# Altium footprint library LPSON_CON.PcbLib: 86 footprints (part 6 of 6)
Each footprint in its own frame and in the unit in brackets; x right, y up, seen from the top. Pads: shape width x height; smd on the part's side, far side on the other; paste and mask are expansions set on the pad; w line width, h text height; cw(c..) or ccw(c..) is an arc to the next point about the centre after c.
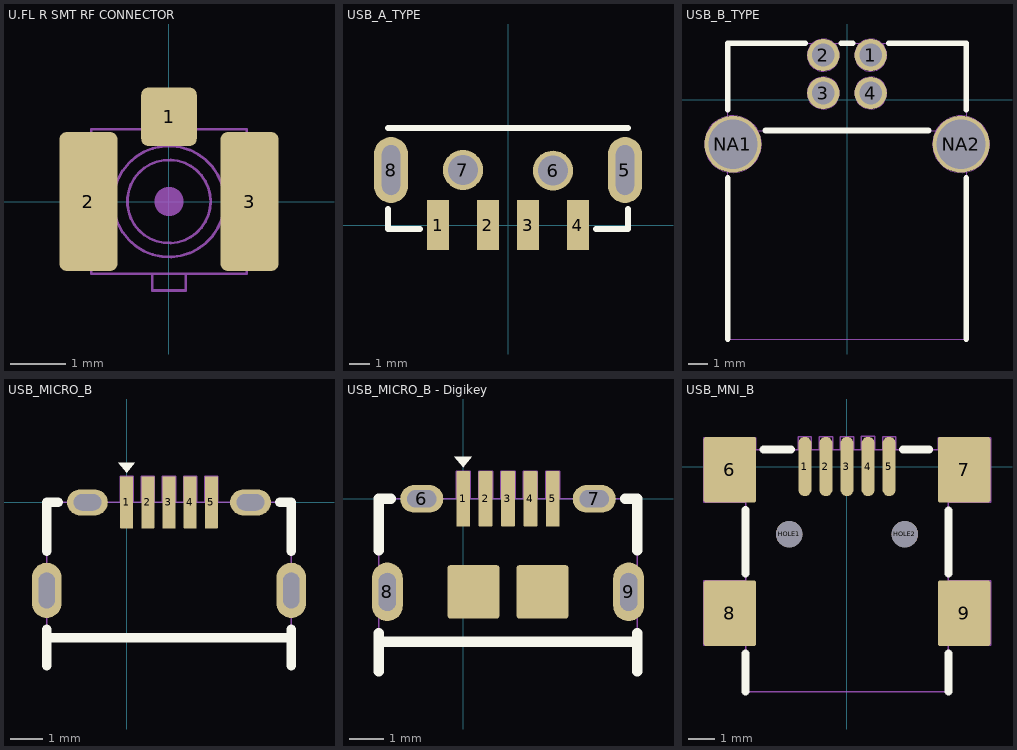
[diagram p5: the footprints below, top view; thin cyan lines are the x and y axes]

## U.FL R SMT RF CONNECTOR [mm]
pads (3):
  rrect25% 1x1.05 smd: 1(0,1.525)
  rrect25% 1.05x2.5 smd: 2(-1.45,0) 3(1.45,0)
Mechanical 2:
  circle w0.05: c0,0 r0.75
  circle w0.5: c0,0 r0.01
  circle w0.05: c0,0 r1
  lines w0.05: -1.4,-1 -1.7,-1 -1.7,1 -1.4,1 ; -0.4,1.3 -0.4,1.55 0.4,1.55 0.4,1.3 ; -0.3,-1.3 -0.3,-1.6 0.3,-1.6 0.3,-1.3 ; 1.4,-1 1.7,-1 1.7,1 1.4,1 ; -1.4,-1.3 -1.4,1.3 1.4,1.3 1.4,-1.3 -1.4,-1.3
  text "1" at -0.1,1.7 h0.5
  text "2" at -2.1,-0.25 h0.5
  text "3" at 1.8,-0.25 h0.5
3D body "SW3dPS-UFL-R-SMD.STEP": height 1.25, standoff 0, extent -1.7,-1.55 1.7,1.55

## USB_A_TYPE [mm] "USB A TYPE"
height 3
pads (8):
  rect 1.1x2.5 smd: 1(-3.5,0) 2(-1,0) 3(1,0) 4(3.5,0)
  oval 1.7x3.3 hole 0.9 slot 2.5 at 90 deg: 5(5.85,2.75) 8(-5.85,2.75)
  round 2 hole 1.5: 6(2.25,2.72) 7(-2.25,2.75)
Top Overlay:
  lines w0.3: -6,0.8 -6,0 -6,-0.2 -4.4,-0.2 ; -6,4.851 6,4.851 ; 4.4,-0.2 6,-0.2 6,0.8
3D body "629004113921.stp": height 2.25, standoff -2.25, extent -6,-0.218 6,19.582

## USB_B_TYPE [mm] "USB TYPE B 12.6x15.6x11.39"
height 11.39
pads (6):
  round 1.7 hole 1.2 mask+0.1: 1(1.25,2.35) 2(-1.25,2.35) 3(-1.25,0.35) 4(1.25,0.35)
  round 3 hole 2.6 mask+0.1: NA1(-6.02,-2.35) NA2(6.02,-2.35)
Top Overlay:
  lines w0.3: -6.3,-12.63 -6.3,-4.13 ; -6.3,-0.53 -6.3,2.97 -2.2,2.97 ; -4.3,-1.63 4.3,-1.63 ; -0.3,2.97 0.3,2.97 ; 2.2,2.97 6.3,2.97 6.3,-0.53 ; 6.3,-12.63 6.3,-4.13
Mechanical 1:
  circle w0.05: c1.25,2.35 r0.85
  circle w0.05: c-1.25,2.35 r0.85
  circle w0.05: c-1.25,0.35 r0.85
  circle w0.05: c1.25,0.35 r0.85
  circle w0.05: c-6.02,-2.35 r1.5
  circle w0.05: c6.02,-2.35 r1.5
  lines w0.05: -6.3,-1.63 6.3,-1.63 ; -6.3,-12.63 -6.3,2.97 6.3,2.97 6.3,-12.63 -6.3,-12.63

## USB_MICRO_B [mm] "USB_MICRO_B, banlinhkien"
height 3
pads (9):
  rrect10% 0.4x1.6 smd: 1(0,0) 2(0.65,0) 3(1.3,0) 4(1.95,0) 5(2.6,0)
  oval 0.9x1.7 hole 0.5 slot 1.1 at 90 deg: ""(-2.45,-2.7) ""(5.05,-2.7)
  oval 1.25x0.8 hole 0.85 slot 0.5 at 90 deg: ""(-1.2,0) ""(3.8,0)
Top Overlay:
  region: 0,0.914 -0.254,1.219 0.254,1.219
  lines w0.3: -2.45,-5 -2.45,-3.9 ; -2.45,-4.15 5.05,-4.15 ; -2.45,-1.5 -2.45,0 -2.1,0 ; 4.7,0 5.05,0 5.05,-1.5 ; 5.05,-5 5.05,-3.9
Mechanical 2:
  lines w0.05: -2.45,-5 -2.45,0 5.05,0 5.05,-5 ; -2.45,-4.15 5.05,-4.15 ; -0.2,0 -0.2,0.8 0.2,0.8 0.2,0 ; 0.45,0 0.45,0.8 0.85,0.8 0.85,0 ; 1.1,0 1.1,0.8 1.5,0.8 1.5,0 ; 1.75,0 1.75,0.8 2.15,0.8 2.15,0 ; 2.4,0 2.4,0.8 2.8,0.8 2.8,0
  text "1" at -0.1,-1 h0.8
  text "5" at 2.3,-1 h0.8
3D body "usb micro b.stp": height 2.61, standoff -0.8, extent -2.45,-5 5.05,0.295

## USB_MICRO_B - Digikey [mm] "USB_MICRO_B, 609-4618-1-ND"
height 3
pads (11):
  rrect10% 0.4x1.6 smd: 1(0,0) 2(0.65,0) 3(1.3,0) 4(1.95,0) 5(2.6,0)
  oval 1.25x0.8 hole 0.85 slot 0.5 at 90 deg: 6(-1.2,0) 7(3.8,0)
  oval 0.9x1.7 hole 0.5 slot 1.1 at 90 deg: 8(-2.2,-2.7) 9(4.8,-2.7)
  rrect10% 1.5x1.55 smd: ""(0.3,-2.7) ""(2.3,-2.7)
Top Overlay:
  region: 0,0.914 -0.254,1.219 0.254,1.219
  lines w0.3: -2.45,-5 -2.45,-3.9 ; -2.45,-4.15 5.05,-4.15 ; -2.45,-1.5 -2.45,0 -2.1,0 ; 4.7,0 5.05,0 5.05,-1.5 ; 5.05,-5 5.05,-3.9
Mechanical 2:
  lines w0.05: -2.45,-5 -2.45,0 5.05,0 5.05,-5 ; -2.45,-4.15 5.05,-4.15 ; -0.2,0 -0.2,0.8 0.2,0.8 0.2,0 ; 0.45,0 0.45,0.8 0.85,0.8 0.85,0 ; 1.1,0 1.1,0.8 1.5,0.8 1.5,0 ; 1.75,0 1.75,0.8 2.15,0.8 2.15,0 ; 2.4,0 2.4,0.8 2.8,0.8 2.8,0
  text "5" at 2.3,-1 h0.8
  text "1" at -0.1,-1 h0.8
3D body "usb micro b.stp": height 2.61, standoff -0.8, extent -2.45,-5 5.05,0.295

## USB_MNI_B [mm] "USB_MINI_B 9.2mmX7.75mm"
height 4
pads (11):
  oval 0.5x2.25 smd: 1(-1.6,0) 2(-0.8,0) 3(0,0) 4(0.8,0) 5(1.6,0)
  rrect10% 2x2.5 smd: 6(-4.45,-0.125) 7(4.45,-0.125) 8(-4.45,-5.575) 9(4.45,-5.575)
  round 1 hole 1 mask+0.1: HOLE1(-2.2,-2.57) HOLE2(2.2,-2.57)
Top Overlay:
  lines w0.3: -3.85,-8.555 -3.85,-7.112 ; -3.85,-4.064 -3.85,-1.651 ; -3.175,0.645 -2.134,0.645 ; 2.134,0.645 3.124,0.645 ; 3.85,-8.555 3.85,-7.112 ; 3.85,-4.064 3.85,-1.676
Mechanical 1:
  lines w0.05: -3.85,-6.8 -5.435,-6.8 -5.435,-4.35 -3.85,-4.35 ; -3.85,-1.35 -5.45,-1.35 -5.45,1.1 -3.46,1.1 -3.46,0.645 ; -1.85,0.645 -1.85,1.13 -1.35,1.13 -1.35,0.645 ; -1.05,0.645 -1.05,1.13 -0.55,1.13 -0.55,0.645 ; -0.25,0.645 -0.25,1.13 0.25,1.13 0.25,0.645 ; 0.55,0.66 0.55,1.145 1.05,1.145 1.05,0.66 ; 1.35,0.645 1.35,1.13 1.85,1.13 1.85,0.645 ; 3.475,0.645 3.475,1.1 5.465,1.1 5.465,-1.35 3.85,-1.35 ; 3.85,-6.8 5.465,-6.8 5.465,-4.35 3.85,-4.35 ; -3.85,-8.555 3.85,-8.555 3.85,0.645 -3.85,0.645 -3.85,-8.555
  text "5" at 1.27,-2.54 h1.2
  text "1" at -1.778,-2.54 h1.2
3D body "User Library-USB_mini_B.step": height 3.95, standoff -1, extent -5.35,-8.517 5.35,0.683